# Altium integrated library Capacitor_5mm.IntLib: 1 symbol
Pins are listed as number, name and electrical type; pins without a type are passive.

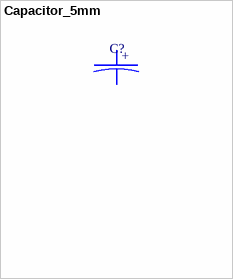
[diagram p0: symbol Capacitor_5mm]

## Capacitor_5mm
designator C?  (value not drawn)
Value: 100uF
footprint Capacitor_5mm
pins: 1, 2
text: +